# Altium footprint library SIP6_MM.PcbLib: 1 footprints
Each footprint in its own frame and in the unit in brackets; x right, y up, seen from the top. Pads: shape width x height; smd on the part's side, far side on the other; paste and mask are expansions set on the pad; w line width, h text height; cw(c..) or ccw(c..) is an arc to the next point about the centre after c.
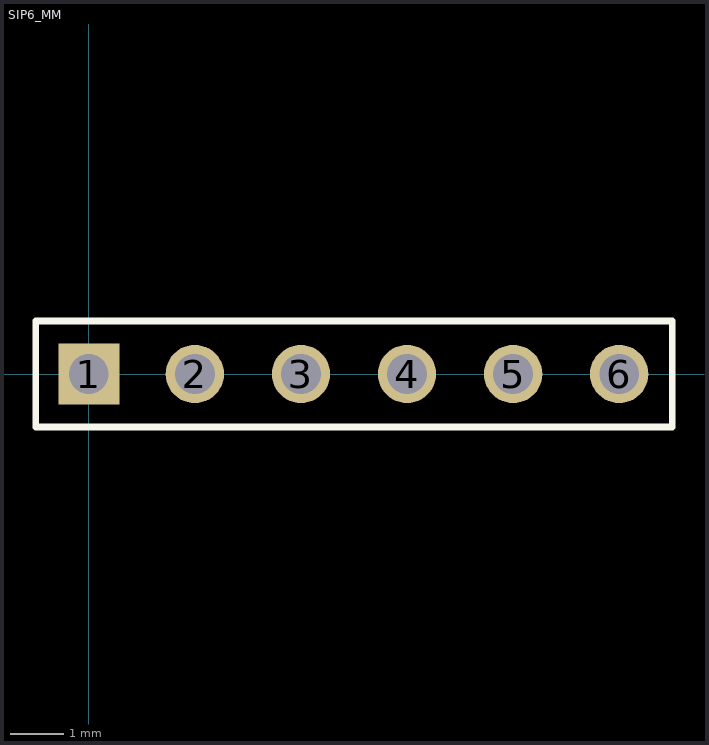
[diagram p0: the footprint, top view; thin cyan lines are the x and y axes]

## SIP6_MM [mm]
pads (6):
  rect 1.15x1.15 hole 0.75: 1(0,0)
  round 1.1 hole 0.75: 2(2,0) 3(4,0) 4(6,0) 5(8,0) 6(10,0)
Top Overlay:
  lines w0.127: -1,-1 11,-1 11,1 -1,1 -1,-1
  text "." at 0.005,1.494 h0.38
3D body: height 6, standoff -2.8, extent -0.965,-1.009 2.985,0.991
3D body: height 6, standoff -2.8, extent 2.985,-1.009 6.935,0.991
3D body: height 6, standoff -2.8, extent 6.985,-1.009 10.935,0.991